# Altium integrated library TI Amplifiers and Linear Operational Amplifier Precision Amplifier Part Two.IntLib: 2300 symbols (part 36 of 81)
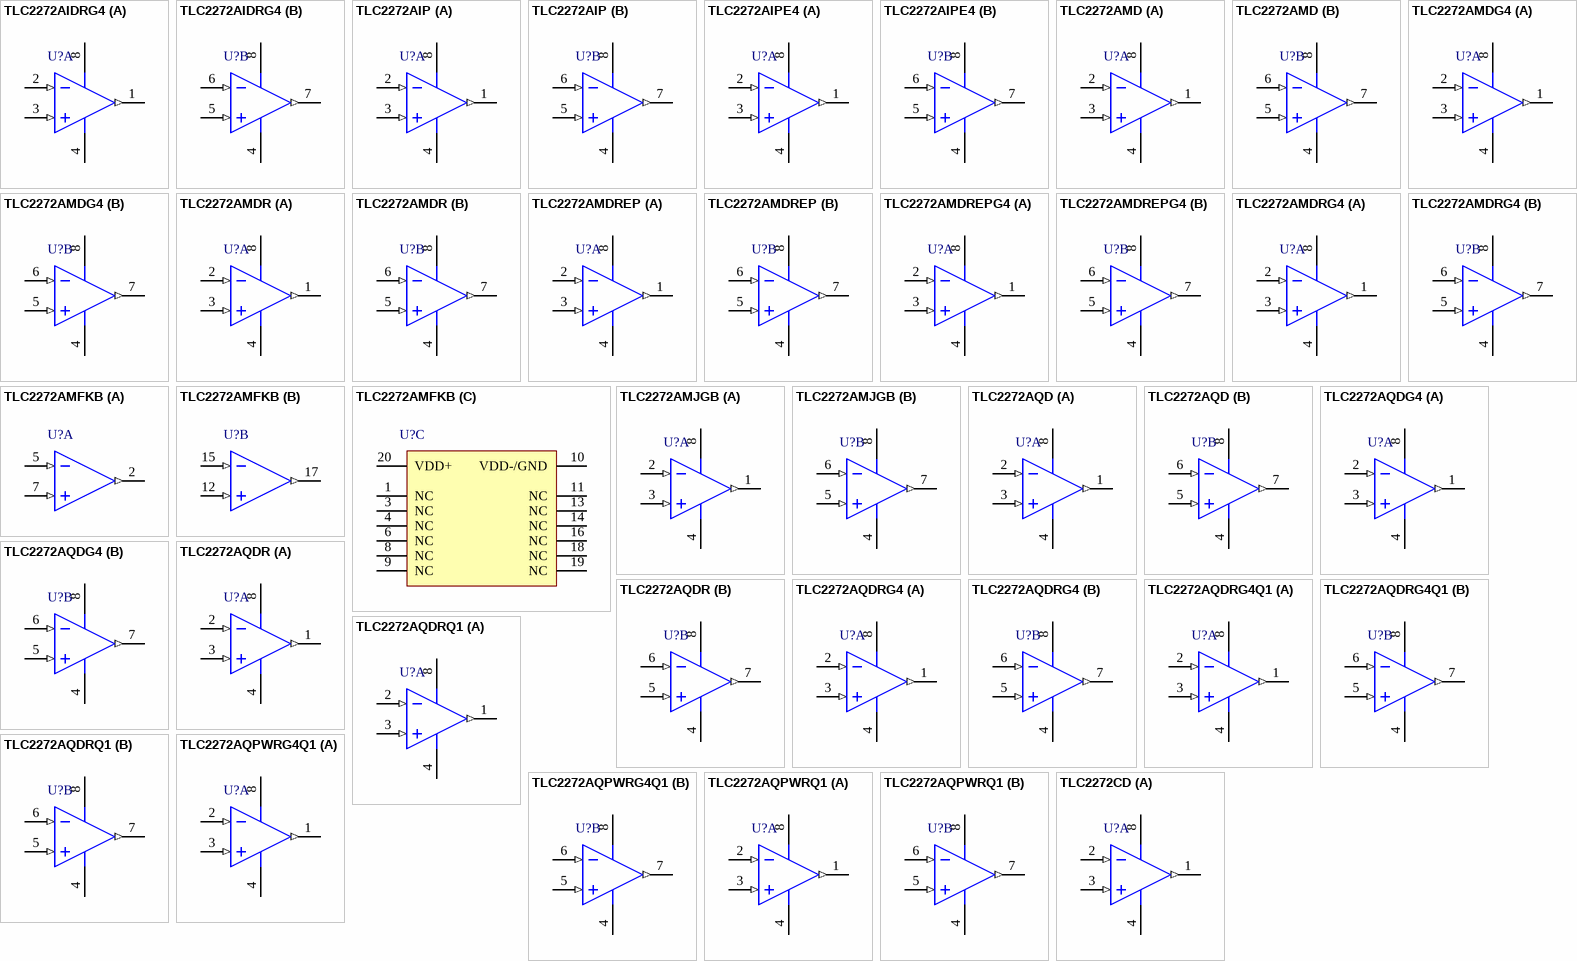
[diagram p171: symbols TLC2272AIDRG4 to TLC2272CD]

## TLC2272AMD
designator U?
Rail-to-Rail Low Noise Advanced LinCMOS(TM) Dual Operational Amplifier, 4.4 to 16 V, -55 to 125 degC, 8-pin SOIC (D8), Green (RoHS & no Sb/Br); Manufacturer: Texas Instruments; PartNumber: TLC2272AMD; CMRR(Min)(dB): 70; GBW(Typ)(MHz): 2.18; IIB(Max)(pA): 60; Iq per channel(Max)(mA): 1.5; Number of Channels: 2; Packing: SMALL T&R; Rating: Military; Slew Rate(Typ)(V/us): 3.6; Sub Family: Low Noise Amp (<=10nV/rtHz), Precision Amplifier; Total Supply Voltage(Max)(+5V is 5, +/-5V is 10): 16; Total Supply Voltage(Min)(+5V is 5, +/-5V is 10): 4.4; Vio (25C)(Max)(mV): 0.95; DatasheetVersion: SLOS190G; PackageVersion: 4040047-3/M, 06/2011; PackageReference: D8; PackageDescription: 8-Pin Plastic Small Outline, Body 4.9 x 3.9 mm, Pitch 1.27 mm; Supplier 1: Digi-Key; Supplier Part Number 1: 296-7113-5-ND; Supplier 2: Newark; Supplier Part Number 2: 08F9017; Supplier 3: Mouser; Supplier Part Number 3: 595-TLC2272AMD; Eco-Plan: Green (RoHS & no Sb/Br); Offset Drift(Typ)(uV/C): 2; Mounting Technology: Surface Mount; Code_JEDEC: MS-012; ComponentLink1Description: Manufacturer URL; ComponentLink1URL: http://www.ti.com/; ComponentLink2Description: Datasheet; ComponentLink2URL: http://www.ti.com/lit/ds/symlink/tlc2272am.pdf; ComponentLink3Description: Package Specification; ComponentLink3URL: http://www.ti.com/litv/pdf/msoi002j
footprint TI-D8_N (SOIC, 8-Leads, Body 4.9x3.9mm, Pitch 1.27mm, IPC Medium Density)
footprint TI-D8_L (SOIC, 8-Leads, Body 4.9x3.9mm, Pitch 1.27mm, IPC High Density)
footprint TI-D8_M (SOIC, 8-Leads, Body 4.9x3.9mm, Pitch 1.27mm, IPC Low Density)
pins on every part: 4 VDD-/GND (power), 8 VDD+ (power)
part A pins: 1 OUT1 (out), 2 IN1- (in), 3 IN1+ (in)
part B pins: 5 IN2+ (in), 6 IN2- (in), 7 OUT2 (out)

## TLC2272AMDG4
designator U?
Rail-to-Rail Low Noise Advanced LinCMOS(TM) Dual Operational Amplifier, 4.4 to 16 V, -55 to 125 degC, 8-pin SOIC (D8), Green (RoHS & no Sb/Br); Manufacturer: Texas Instruments; PartNumber: TLC2272AMDG4; CMRR(Min)(dB): 70; GBW(Typ)(MHz): 2.18; IIB(Max)(pA): 60; Iq per channel(Max)(mA): 1.5; Number of Channels: 2; Packing: SMALL T&R; Rating: Military; Slew Rate(Typ)(V/us): 3.6; Sub Family: Low Noise Amp (<=10nV/rtHz), Precision Amplifier; Total Supply Voltage(Max)(+5V is 5, +/-5V is 10): 16; Total Supply Voltage(Min)(+5V is 5, +/-5V is 10): 4.4; Vio (25C)(Max)(mV): 0.95; DatasheetVersion: SLOS190G; PackageVersion: 4040047-3/M, 06/2011; PackageReference: D8; PackageDescription: 8-Pin Plastic Small Outline, Body 4.9 x 3.9 mm, Pitch 1.27 mm; Supplier 1: Digi-Key; Supplier Part Number 1: 296-34339-5-ND; Supplier 2: Mouser; Supplier Part Number 2: 595-TLC2272AMDG4; Eco-Plan: Green (RoHS & no Sb/Br); Offset Drift(Typ)(uV/C): 2; Mounting Technology: Surface Mount; Code_JEDEC: MS-012; ComponentLink1Description: Manufacturer URL; ComponentLink1URL: http://www.ti.com/; ComponentLink2Description: Datasheet; ComponentLink2URL: http://www.ti.com/lit/ds/symlink/tlc2272am.pdf; ComponentLink3Description: Package Specification; ComponentLink3URL: http://www.ti.com/litv/pdf/msoi002j
footprint TI-D8_N (SOIC, 8-Leads, Body 4.9x3.9mm, Pitch 1.27mm, IPC Medium Density)
footprint TI-D8_L (SOIC, 8-Leads, Body 4.9x3.9mm, Pitch 1.27mm, IPC High Density)
footprint TI-D8_M (SOIC, 8-Leads, Body 4.9x3.9mm, Pitch 1.27mm, IPC Low Density)
pins on every part: 4 VDD-/GND (power), 8 VDD+ (power)
part A pins: 1 OUT1 (out), 2 IN1- (in), 3 IN1+ (in)
part B pins: 5 IN2+ (in), 6 IN2- (in), 7 OUT2 (out)

## TLC2272AMDR
designator U?
Rail-to-Rail Low Noise Advanced LinCMOS(TM) Dual Operational Amplifier, 4.4 to 16 V, -55 to 125 degC, 8-pin SOIC (D8), Green (RoHS & no Sb/Br); Manufacturer: Texas Instruments; PartNumber: TLC2272AMDR; CMRR(Min)(dB): 70; GBW(Typ)(MHz): 2.18; IIB(Max)(pA): 60; Iq per channel(Max)(mA): 1.5; Number of Channels: 2; Packing: LARGE T&R; Rating: Military; Slew Rate(Typ)(V/us): 3.6; Sub Family: Low Noise Amp (<=10nV/rtHz), Precision Amplifier; Total Supply Voltage(Max)(+5V is 5, +/-5V is 10): 16; Total Supply Voltage(Min)(+5V is 5, +/-5V is 10): 4.4; Vio (25C)(Max)(mV): 0.95; DatasheetVersion: SLOS190G; PackageVersion: 4040047-3/M, 06/2011; PackageReference: D8; PackageDescription: 8-Pin Plastic Small Outline, Body 4.9 x 3.9 mm, Pitch 1.27 mm; Supplier 1: Digi-Key; Supplier Part Number 1: TLC2272AMDR-ND; Supplier 2: Mouser; Supplier Part Number 2: 595-TLC2272AMDR; Eco-Plan: Green (RoHS & no Sb/Br); Offset Drift(Typ)(uV/C): 2; Mounting Technology: Surface Mount; Code_JEDEC: MS-012; ComponentLink1Description: Manufacturer URL; ComponentLink1URL: http://www.ti.com/; ComponentLink2Description: Datasheet; ComponentLink2URL: http://www.ti.com/lit/ds/symlink/tlc2272am.pdf; ComponentLink3Description: Package Specification; ComponentLink3URL: http://www.ti.com/litv/pdf/msoi002j
footprint TI-D8_N (SOIC, 8-Leads, Body 4.9x3.9mm, Pitch 1.27mm, IPC Medium Density)
footprint TI-D8_L (SOIC, 8-Leads, Body 4.9x3.9mm, Pitch 1.27mm, IPC High Density)
footprint TI-D8_M (SOIC, 8-Leads, Body 4.9x3.9mm, Pitch 1.27mm, IPC Low Density)
pins on every part: 4 VDD-/GND (power), 8 VDD+ (power)
part A pins: 1 OUT1 (out), 2 IN1- (in), 3 IN1+ (in)
part B pins: 5 IN2+ (in), 6 IN2- (in), 7 OUT2 (out)

## TLC2272AMDREP
designator U?
Enhanced Product Advanced LinCMOS(TM) Rail-to-Rail Dual Operational Amplifier, 4.4 to 16 V, -55 to 125 degC, 8-pin SOIC (D8), Green (RoHS & no Sb/Br); Manufacturer: Texas Instruments; PartNumber: TLC2272AMDREP; CMRR(Min)(dB): 70; GBW(Typ)(MHz): 2.18; IIB(Max)(pA): 60; Iq per channel(Max)(mA): 1.5; Number of Channels: 2; Packing: LARGE T&R; Rating: HiRel Enhanced Product; Slew Rate(Typ)(V/us): 3.6; Sub Family: Low Noise Amp (<=10nV/rtHz), Precision Amplifier; Total Supply Voltage(Max)(+5V is 5, +/-5V is 10): 16; Total Supply Voltage(Min)(+5V is 5, +/-5V is 10): 4.4; Vio (25C)(Max)(mV): 0.95; DatasheetVersion: SGLS131B; PackageVersion: 4040047-3/M, 06/2011; PackageReference: D8; PackageDescription: 8-Pin Plastic Small Outline, Body 4.9 x 3.9 mm, Pitch 1.27 mm; Supplier 1: Digi-Key; Supplier Part Number 1: 296-22409-2-ND; Supplier 2: Digi-Key; Supplier Part Number 2: 296-22409-1-ND; Supplier 3: Digi-Key; Supplier Part Number 3: 296-22409-6-ND; Supplier 4: Newark; Supplier Part Number 4: 46M0929; Supplier 5: Mouser; Supplier Part Number 5: 595-TLC2272AMDREP; Eco-Plan: Green (RoHS & no Sb/Br); Offset Drift(Typ)(uV/C): 2; Mounting Technology: Surface Mount; Code_JEDEC: MS-012; ComponentLink1Description: Manufacturer URL; ComponentLink1URL: http://www.ti.com/; ComponentLink2Description: Datasheet; ComponentLink2URL: http://www.ti.com/lit/ds/symlink/tlc2272a-ep.pdf; ComponentLink3Description: Package Specification; ComponentLink3URL: http://www.ti.com/litv/pdf/msoi002j
footprint TI-D8_N (SOIC, 8-Leads, Body 4.9x3.9mm, Pitch 1.27mm, IPC Medium Density)
footprint TI-D8_L (SOIC, 8-Leads, Body 4.9x3.9mm, Pitch 1.27mm, IPC High Density)
footprint TI-D8_M (SOIC, 8-Leads, Body 4.9x3.9mm, Pitch 1.27mm, IPC Low Density)
pins on every part: 4 VDD-/GND (power), 8 VDD+ (power)
part A pins: 1 OUT1 (out), 2 IN1- (in), 3 IN1+ (in)
part B pins: 5 IN2+ (in), 6 IN2- (in), 7 OUT2 (out)

## TLC2272AMDREPG4
designator U?
Enhanced Product Advanced LinCMOS(TM) Rail-to-Rail Dual Operational Amplifier, 4.4 to 16 V, -55 to 125 degC, 8-pin SOIC (D8), Green (RoHS & no Sb/Br); Manufacturer: Texas Instruments; PartNumber: TLC2272AMDREPG4; CMRR(Min)(dB): 70; GBW(Typ)(MHz): 2.18; IIB(Max)(pA): 60; Iq per channel(Max)(mA): 1.5; Number of Channels: 2; Packing: LARGE T&R; Rating: HiRel Enhanced Product; Slew Rate(Typ)(V/us): 3.6; Sub Family: Low Noise Amp (<=10nV/rtHz), Precision Amplifier; Total Supply Voltage(Max)(+5V is 5, +/-5V is 10): 16; Total Supply Voltage(Min)(+5V is 5, +/-5V is 10): 4.4; Vio (25C)(Max)(mV): 0.95; DatasheetVersion: SGLS131B; PackageVersion: 4040047-3/M, 06/2011; PackageReference: D8; PackageDescription: 8-Pin Plastic Small Outline, Body 4.9 x 3.9 mm, Pitch 1.27 mm; Supplier 1: Digi-Key; Supplier Part Number 1: TLC2272AMDREPG4-ND; Supplier 2: Mouser; Supplier Part Number 2: 595-TLC2272AMDREPG4; Eco-Plan: Green (RoHS & no Sb/Br); Offset Drift(Typ)(uV/C): 2; Mounting Technology: Surface Mount; Code_JEDEC: MS-012; ComponentLink1Description: Manufacturer URL; ComponentLink1URL: http://www.ti.com/; ComponentLink2Description: Datasheet; ComponentLink2URL: http://www.ti.com/lit/ds/symlink/tlc2272a-ep.pdf; ComponentLink3Description: Package Specification; ComponentLink3URL: http://www.ti.com/litv/pdf/msoi002j
footprint TI-D8_N (SOIC, 8-Leads, Body 4.9x3.9mm, Pitch 1.27mm, IPC Medium Density)
footprint TI-D8_L (SOIC, 8-Leads, Body 4.9x3.9mm, Pitch 1.27mm, IPC High Density)
footprint TI-D8_M (SOIC, 8-Leads, Body 4.9x3.9mm, Pitch 1.27mm, IPC Low Density)
pins on every part: 4 VDD-/GND (power), 8 VDD+ (power)
part A pins: 1 OUT1 (out), 2 IN1- (in), 3 IN1+ (in)
part B pins: 5 IN2+ (in), 6 IN2- (in), 7 OUT2 (out)

## TLC2272AMDRG4
designator U?
Rail-to-Rail Low Noise Advanced LinCMOS(TM) Dual Operational Amplifier, 4.4 to 16 V, -55 to 125 degC, 8-pin SOIC (D8), Green (RoHS & no Sb/Br); Manufacturer: Texas Instruments; PartNumber: TLC2272AMDRG4; CMRR(Min)(dB): 70; GBW(Typ)(MHz): 2.18; IIB(Max)(pA): 60; Iq per channel(Max)(mA): 1.5; Number of Channels: 2; Packing: LARGE T&R; Rating: Military; Slew Rate(Typ)(V/us): 3.6; Sub Family: Low Noise Amp (<=10nV/rtHz), Precision Amplifier; Total Supply Voltage(Max)(+5V is 5, +/-5V is 10): 16; Total Supply Voltage(Min)(+5V is 5, +/-5V is 10): 4.4; Vio (25C)(Max)(mV): 0.95; DatasheetVersion: SLOS190G; PackageVersion: 4040047-3/M, 06/2011; PackageReference: D8; PackageDescription: 8-Pin Plastic Small Outline, Body 4.9 x 3.9 mm, Pitch 1.27 mm; Supplier 1: Digi-Key; Supplier Part Number 1: TLC2272AMDRG4-ND; Supplier 2: Mouser; Supplier Part Number 2: 595-TLC2272AMDRG4; Eco-Plan: Green (RoHS & no Sb/Br); Offset Drift(Typ)(uV/C): 2; Mounting Technology: Surface Mount; Code_JEDEC: MS-012; ComponentLink1Description: Manufacturer URL; ComponentLink1URL: http://www.ti.com/; ComponentLink2Description: Datasheet; ComponentLink2URL: http://www.ti.com/lit/ds/symlink/tlc2272am.pdf; ComponentLink3Description: Package Specification; ComponentLink3URL: http://www.ti.com/litv/pdf/msoi002j
footprint TI-D8_N (SOIC, 8-Leads, Body 4.9x3.9mm, Pitch 1.27mm, IPC Medium Density)
footprint TI-D8_L (SOIC, 8-Leads, Body 4.9x3.9mm, Pitch 1.27mm, IPC High Density)
footprint TI-D8_M (SOIC, 8-Leads, Body 4.9x3.9mm, Pitch 1.27mm, IPC Low Density)
pins on every part: 4 VDD-/GND (power), 8 VDD+ (power)
part A pins: 1 OUT1 (out), 2 IN1- (in), 3 IN1+ (in)
part B pins: 5 IN2+ (in), 6 IN2- (in), 7 OUT2 (out)

## TLC2272AMFKB
designator U?
Rail-to-Rail Low Noise Advanced LinCMOS(TM) Dual Operational Amplifier, 4.4 to 16 V, -55 to 125 degC, 20-pin LCC (FK20); Manufacturer: Texas Instruments; PartNumber: TLC2272AMFKB; CMRR(Min)(dB): 70; GBW(Typ)(MHz): 2.18; IIB(Max)(pA): 60; Iq per channel(Max)(mA): 1.5; Number of Channels: 2; Packing: TUBE; Rating: Military; Slew Rate(Typ)(V/us): 3.6; Sub Family: Low Noise Amp (<=10nV/rtHz), Precision Amplifier; Total Supply Voltage(Max)(+5V is 5, +/-5V is 10): 16; Total Supply Voltage(Min)(+5V is 5, +/-5V is 10): 4.4; Vio (25C)(Max)(mV): 0.95; DatasheetVersion: SLOS190G; PackageVersion: 4040140/D, 01/2011; PackageReference: FK20; PackageDescription: 20-Pin Ceramic, Metal Chip Carrier, Body 8.89 x 8.89 mm, Pitch 1.27 mm; Offset Drift(Typ)(uV/C): 2; Mounting Technology: Surface Mount; Code_JEDEC: MS-004; ComponentLink1Description: Manufacturer URL; ComponentLink1URL: http://www.ti.com/; ComponentLink2Description: Datasheet; ComponentLink2URL: http://www.ti.com/lit/ds/symlink/tlc2272am.pdf; ComponentLink3Description: Package Specification; ComponentLink3URL: http://www.ti.com/litv/pdf/mlcc006d
footprint TI-FK20_N (Leadless Chip Carrier, 20-Leads, Body 8.9x8.9mm, Pitch 1.27mm, IPC Medium Density)
footprint TI-FK20_L (Leadless Chip Carrier, 20-Leads, Body 8.9x8.9mm, Pitch 1.27mm, IPC High Density)
footprint TI-FK20_M (Leadless Chip Carrier, 20-Leads, Body 8.9x8.9mm, Pitch 1.27mm, IPC Low Density)
part A pins: 2 OUT1 (out), 5 IN1- (in), 7 IN1+ (in)
part B pins: 12 IN2+ (in), 15 IN2- (in), 17 OUT2 (out)
part C pins: 1 NC, 3 NC, 4 NC, 6 NC, 8 NC, 9 NC, 10 VDD-/GND (power), 11 NC, 13 NC, 14 NC, 16 NC, 18 NC, 19 NC, 20 VDD+ (power)

## TLC2272AMJGB
designator U?
Rail-to-Rail Low Noise Advanced LinCMOS(TM) Dual Operational Amplifier, 4.4 to 16 V, -55 to 125 degC, 8-pin DIP (JG8); Manufacturer: Texas Instruments; PartNumber: TLC2272AMJGB; CMRR(Min)(dB): 70; GBW(Typ)(MHz): 2.18; IIB(Max)(pA): 60; Iq per channel(Max)(mA): 1.5; Number of Channels: 2; Packing: TUBE; Rating: Military; Slew Rate(Typ)(V/us): 3.6; Sub Family: Low Noise Amp (<=10nV/rtHz), Precision Amplifier; Total Supply Voltage(Max)(+5V is 5, +/-5V is 10): 16; Total Supply Voltage(Min)(+5V is 5, +/-5V is 10): 4.4; Vio (25C)(Max)(mV): 0.95; DatasheetVersion: SLOS190G; PackageVersion: 4040107/C, 08/1996; PackageReference: JG8; PackageDescription: 8-Pin Ceramic, Glass In-Line, Body 9.58 x 6.665 mm, Pitch 2.54 mm; Offset Drift(Typ)(uV/C): 2; Mounting Technology: Through Hole; ComponentLink1Description: Manufacturer URL; ComponentLink1URL: http://www.ti.com/; ComponentLink2Description: Datasheet; ComponentLink2URL: http://www.ti.com/lit/ds/symlink/tlc2272am.pdf; ComponentLink3Description: Package Specification; ComponentLink3URL: http://www.ti.com/litv/pdf/mcer001a
footprint TI-JG8 (DIP, 8-Leads, Body 10.15x7.1mm, Pitch 2.54mm)
pins on every part: 4 VDD-/GND (power), 8 VDD+ (power)
part A pins: 1 OUT1 (out), 2 IN1- (in), 3 IN1+ (in)
part B pins: 5 IN2+ (in), 6 IN2- (in), 7 OUT2 (out)

## TLC2272AQD
designator U?
Advanced LinCMOS(TM) Rail-to-Rail Dual Operational Amplifier, 4.4 to 16 V, -40 to 125 degC, 8-pin SOIC (D8), Green (RoHS & no Sb/Br); Manufacturer: Texas Instruments; PartNumber: TLC2272AQD; CMRR(Min)(dB): 70; GBW(Typ)(MHz): 2.18; IIB(Max)(pA): 60; Iq per channel(Max)(mA): 1.5; Number of Channels: 2; Packing: SMALL T&R; Rating: Catalog; Slew Rate(Typ)(V/us): 3.6; Sub Family: Low Noise Amp (<=10nV/rtHz), Precision Amplifier; Total Supply Voltage(Max)(+5V is 5, +/-5V is 10): 16; Total Supply Voltage(Min)(+5V is 5, +/-5V is 10): 4.4; Vio (25C)(Max)(mV): 0.95; DatasheetVersion: SLOS190G; PackageVersion: 4040047-3/M, 06/2011; PackageReference: D8; PackageDescription: 8-Pin Plastic Small Outline, Body 4.9 x 3.9 mm, Pitch 1.27 mm; Supplier 1: Digi-Key; Supplier Part Number 1: 296-7114-5-ND; Supplier 2: Newark; Supplier Part Number 2: 76C6902; Supplier 3: Mouser; Supplier Part Number 3: 595-TLC2272AQD; Eco-Plan: Green (RoHS & no Sb/Br); Offset Drift(Typ)(uV/C): 2; Mounting Technology: Surface Mount; Code_JEDEC: MS-012; ComponentLink1Description: Manufacturer URL; ComponentLink1URL: http://www.ti.com/; ComponentLink2Description: Datasheet; ComponentLink2URL: http://www.ti.com/lit/ds/symlink/tlc2272a.pdf; ComponentLink3Description: Package Specification; ComponentLink3URL: http://www.ti.com/litv/pdf/msoi002j
footprint TI-D8_N (SOIC, 8-Leads, Body 4.9x3.9mm, Pitch 1.27mm, IPC Medium Density)
footprint TI-D8_L (SOIC, 8-Leads, Body 4.9x3.9mm, Pitch 1.27mm, IPC High Density)
footprint TI-D8_M (SOIC, 8-Leads, Body 4.9x3.9mm, Pitch 1.27mm, IPC Low Density)
pins on every part: 4 VDD-/GND (power), 8 VDD+ (power)
part A pins: 1 OUT1 (out), 2 IN1- (in), 3 IN1+ (in)
part B pins: 5 IN2+ (in), 6 IN2- (in), 7 OUT2 (out)

## TLC2272AQDG4
designator U?
Advanced LinCMOS(TM) Rail-to-Rail Dual Operational Amplifier, 4.4 to 16 V, -40 to 125 degC, 8-pin SOIC (D8), Green (RoHS & no Sb/Br); Manufacturer: Texas Instruments; PartNumber: TLC2272AQDG4; CMRR(Min)(dB): 70; GBW(Typ)(MHz): 2.18; IIB(Max)(pA): 60; Iq per channel(Max)(mA): 1.5; Number of Channels: 2; Packing: SMALL T&R; Rating: Catalog; Slew Rate(Typ)(V/us): 3.6; Sub Family: Low Noise Amp (<=10nV/rtHz), Precision Amplifier; Total Supply Voltage(Max)(+5V is 5, +/-5V is 10): 16; Total Supply Voltage(Min)(+5V is 5, +/-5V is 10): 4.4; Vio (25C)(Max)(mV): 0.95; DatasheetVersion: SLOS190G; PackageVersion: 4040047-3/M, 06/2011; PackageReference: D8; PackageDescription: 8-Pin Plastic Small Outline, Body 4.9 x 3.9 mm, Pitch 1.27 mm; Supplier 1: Digi-Key; Supplier Part Number 1: 296-34340-5-ND; Supplier 2: Newark; Supplier Part Number 2: 50M8964; Supplier 3: Mouser; Supplier Part Number 3: 595-TLC2272AQDG4; Eco-Plan: Green (RoHS & no Sb/Br); Offset Drift(Typ)(uV/C): 2; Mounting Technology: Surface Mount; Code_JEDEC: MS-012; ComponentLink1Description: Manufacturer URL; ComponentLink1URL: http://www.ti.com/; ComponentLink2Description: Datasheet; ComponentLink2URL: http://www.ti.com/lit/ds/symlink/tlc2272a.pdf; ComponentLink3Description: Package Specification; ComponentLink3URL: http://www.ti.com/litv/pdf/msoi002j
footprint TI-D8_N (SOIC, 8-Leads, Body 4.9x3.9mm, Pitch 1.27mm, IPC Medium Density)
footprint TI-D8_L (SOIC, 8-Leads, Body 4.9x3.9mm, Pitch 1.27mm, IPC High Density)
footprint TI-D8_M (SOIC, 8-Leads, Body 4.9x3.9mm, Pitch 1.27mm, IPC Low Density)
pins on every part: 4 VDD-/GND (power), 8 VDD+ (power)
part A pins: 1 OUT1 (out), 2 IN1- (in), 3 IN1+ (in)
part B pins: 5 IN2+ (in), 6 IN2- (in), 7 OUT2 (out)

## TLC2272AQDR
designator U?
Advanced LinCMOS(TM) Rail-to-Rail Dual Operational Amplifier, 4.4 to 16 V, -40 to 125 degC, 8-pin SOIC (D8), Green (RoHS & no Sb/Br); Manufacturer: Texas Instruments; PartNumber: TLC2272AQDR; CMRR(Min)(dB): 70; GBW(Typ)(MHz): 2.18; IIB(Max)(pA): 60; Iq per channel(Max)(mA): 1.5; Number of Channels: 2; Packing: LARGE T&R; Rating: Catalog; Slew Rate(Typ)(V/us): 3.6; Sub Family: Low Noise Amp (<=10nV/rtHz), Precision Amplifier; Total Supply Voltage(Max)(+5V is 5, +/-5V is 10): 16; Total Supply Voltage(Min)(+5V is 5, +/-5V is 10): 4.4; Vio (25C)(Max)(mV): 0.95; DatasheetVersion: SLOS190G; PackageVersion: 4040047-3/M, 06/2011; PackageReference: D8; PackageDescription: 8-Pin Plastic Small Outline, Body 4.9 x 3.9 mm, Pitch 1.27 mm; Supplier 1: Digi-Key; Supplier Part Number 1: TLC2272AQDR-ND; Supplier 2: Newark; Supplier Part Number 2: 76C6903; Supplier 3: Mouser; Supplier Part Number 3: 595-TLC2272AQDR; Eco-Plan: Green (RoHS & no Sb/Br); Offset Drift(Typ)(uV/C): 2; Mounting Technology: Surface Mount; Code_JEDEC: MS-012; ComponentLink1Description: Manufacturer URL; ComponentLink1URL: http://www.ti.com/; ComponentLink2Description: Datasheet; ComponentLink2URL: http://www.ti.com/lit/ds/symlink/tlc2272a.pdf; ComponentLink3Description: Package Specification; ComponentLink3URL: http://www.ti.com/litv/pdf/msoi002j
footprint TI-D8_N (SOIC, 8-Leads, Body 4.9x3.9mm, Pitch 1.27mm, IPC Medium Density)
footprint TI-D8_L (SOIC, 8-Leads, Body 4.9x3.9mm, Pitch 1.27mm, IPC High Density)
footprint TI-D8_M (SOIC, 8-Leads, Body 4.9x3.9mm, Pitch 1.27mm, IPC Low Density)
pins on every part: 4 VDD-/GND (power), 8 VDD+ (power)
part A pins: 1 OUT1 (out), 2 IN1- (in), 3 IN1+ (in)
part B pins: 5 IN2+ (in), 6 IN2- (in), 7 OUT2 (out)

## TLC2272AQDRG4
designator U?
Advanced LinCMOS(TM) Rail-to-Rail Dual Operational Amplifier, 4.4 to 16 V, -40 to 125 degC, 8-pin SOIC (D8), Green (RoHS & no Sb/Br); Manufacturer: Texas Instruments; PartNumber: TLC2272AQDRG4; CMRR(Min)(dB): 70; GBW(Typ)(MHz): 2.18; IIB(Max)(pA): 60; Iq per channel(Max)(mA): 1.5; Number of Channels: 2; Packing: LARGE T&R; Rating: Catalog; Slew Rate(Typ)(V/us): 3.6; Sub Family: Low Noise Amp (<=10nV/rtHz), Precision Amplifier; Total Supply Voltage(Max)(+5V is 5, +/-5V is 10): 16; Total Supply Voltage(Min)(+5V is 5, +/-5V is 10): 4.4; Vio (25C)(Max)(mV): 0.95; DatasheetVersion: SLOS190G; PackageVersion: 4040047-3/M, 06/2011; PackageReference: D8; PackageDescription: 8-Pin Plastic Small Outline, Body 4.9 x 3.9 mm, Pitch 1.27 mm; Supplier 1: Digi-Key; Supplier Part Number 1: TLC2272AQDRG4-ND; Supplier 2: Mouser; Supplier Part Number 2: 595-TLC2272AQDRG4; Eco-Plan: Green (RoHS & no Sb/Br); Offset Drift(Typ)(uV/C): 2; Mounting Technology: Surface Mount; Code_JEDEC: MS-012; ComponentLink1Description: Manufacturer URL; ComponentLink1URL: http://www.ti.com/; ComponentLink2Description: Datasheet; ComponentLink2URL: http://www.ti.com/lit/ds/symlink/tlc2272a.pdf; ComponentLink3Description: Package Specification; ComponentLink3URL: http://www.ti.com/litv/pdf/msoi002j
footprint TI-D8_N (SOIC, 8-Leads, Body 4.9x3.9mm, Pitch 1.27mm, IPC Medium Density)
footprint TI-D8_L (SOIC, 8-Leads, Body 4.9x3.9mm, Pitch 1.27mm, IPC High Density)
footprint TI-D8_M (SOIC, 8-Leads, Body 4.9x3.9mm, Pitch 1.27mm, IPC Low Density)
pins on every part: 4 VDD-/GND (power), 8 VDD+ (power)
part A pins: 1 OUT1 (out), 2 IN1- (in), 3 IN1+ (in)
part B pins: 5 IN2+ (in), 6 IN2- (in), 7 OUT2 (out)

## TLC2272AQDRG4Q1
designator U?
Automotive Catalog Advanced LinCMOS(TM) Rail-to-Rail Operational Amplifier, 4.4 to 16 V, -40 to 125 degC, 8-pin SOIC (D8), Green (RoHS & no Sb/Br); Manufacturer: Texas Instruments; PartNumber: TLC2272AQDRG4Q1; CMRR(Min)(dB): 70; GBW(Typ)(MHz): 2.18; IIB(Max)(pA): 60; Iq per channel(Max)(mA): 1.5; Number of Channels: 2; Packing: LARGE T&R; Slew Rate(Typ)(V/us): 3.6; Sub Family: Low Noise Amp (<=10nV/rtHz), Precision Amplifier; Total Supply Voltage(Max)(+5V is 5, +/-5V is 10): 16; Total Supply Voltage(Min)(+5V is 5, +/-5V is 10): 4.4; Vio (25C)(Max)(mV): 0.95; DatasheetVersion: SGLS007E; PackageVersion: 4040047-3/M, 06/2011; PackageReference: D8; PackageDescription: 8-Pin Plastic Small Outline, Body 4.9 x 3.9 mm, Pitch 1.27 mm; Supplier 1: Digi-Key; Supplier Part Number 1: TLC2272AQDRG4Q1-ND; Supplier 2: Mouser; Supplier Part Number 2: 595-TLC2272AQDRG4Q1; Eco-Plan: Green (RoHS & no Sb/Br); Offset Drift(Typ)(uV/C): 2; Rating: Automotive; Mounting Technology: Surface Mount; Code_JEDEC: MS-012; ComponentLink1Description: Manufacturer URL; ComponentLink1URL: http://www.ti.com/; ComponentLink2Description: Datasheet; ComponentLink2URL: http://www.ti.com/lit/ds/symlink/tlc2272a-q1.pdf; ComponentLink3Description: Package Specification; ComponentLink3URL: http://www.ti.com/litv/pdf/msoi002j
footprint TI-D8_N (SOIC, 8-Leads, Body 4.9x3.9mm, Pitch 1.27mm, IPC Medium Density)
footprint TI-D8_L (SOIC, 8-Leads, Body 4.9x3.9mm, Pitch 1.27mm, IPC High Density)
footprint TI-D8_M (SOIC, 8-Leads, Body 4.9x3.9mm, Pitch 1.27mm, IPC Low Density)
pins on every part: 4 VDD-/GND (power), 8 VDD+ (power)
part A pins: 1 OUT1 (out), 2 IN1- (in), 3 IN1+ (in)
part B pins: 5 IN2+ (in), 6 IN2- (in), 7 OUT2 (out)

## TLC2272AQDRQ1
designator U?
Automotive Catalog Advanced LinCMOS(TM) Rail-to-Rail Operational Amplifier, 4.4 to 16 V, -40 to 125 degC, 8-pin SOIC (D8), Green (RoHS & no Sb/Br); Manufacturer: Texas Instruments; PartNumber: TLC2272AQDRQ1; CMRR(Min)(dB): 70; GBW(Typ)(MHz): 2.18; IIB(Max)(pA): 60; Iq per channel(Max)(mA): 1.5; Number of Channels: 2; Packing: LARGE T&R; Slew Rate(Typ)(V/us): 3.6; Sub Family: Low Noise Amp (<=10nV/rtHz), Precision Amplifier; Total Supply Voltage(Max)(+5V is 5, +/-5V is 10): 16; Total Supply Voltage(Min)(+5V is 5, +/-5V is 10): 4.4; Vio (25C)(Max)(mV): 0.95; DatasheetVersion: SGLS007E; PackageVersion: 4040047-3/M, 06/2011; PackageReference: D8; PackageDescription: 8-Pin Plastic Small Outline, Body 4.9 x 3.9 mm, Pitch 1.27 mm; Supplier 1: Digi-Key; Supplier Part Number 1: 296-15025-2-ND; Supplier 2: Digi-Key; Supplier Part Number 2: 296-15025-1-ND; Supplier 3: Digi-Key; Supplier Part Number 3: 296-15025-6-ND; Supplier 4: Newark; Supplier Part Number 4: 34H2472; Supplier 5: Mouser; Supplier Part Number 5: 595-TLC2272AQDRQ1; Eco-Plan: Green (RoHS & no Sb/Br); Offset Drift(Typ)(uV/C): 2; Rating: Automotive; Mounting Technology: Surface Mount; Code_JEDEC: MS-012; ComponentLink1Description: Manufacturer URL; ComponentLink1URL: http://www.ti.com/; ComponentLink2Description: Datasheet; ComponentLink2URL: http://www.ti.com/lit/ds/symlink/tlc2272a-q1.pdf; ComponentLink3Description: Package Specification; ComponentLink3URL: http://www.ti.com/litv/pdf/msoi002j
footprint TI-D8_N (SOIC, 8-Leads, Body 4.9x3.9mm, Pitch 1.27mm, IPC Medium Density)
footprint TI-D8_L (SOIC, 8-Leads, Body 4.9x3.9mm, Pitch 1.27mm, IPC High Density)
footprint TI-D8_M (SOIC, 8-Leads, Body 4.9x3.9mm, Pitch 1.27mm, IPC Low Density)
pins on every part: 4 VDD-/GND (power), 8 VDD+ (power)
part A pins: 1 OUT1 (out), 2 IN1- (in), 3 IN1+ (in)
part B pins: 5 IN2+ (in), 6 IN2- (in), 7 OUT2 (out)

## TLC2272AQPWRG4Q1
designator U?
Automotive Catalog Advanced LinCMOS(TM) Rail-to-Rail Operational Amplifier, 4.4 to 16 V, -40 to 125 degC, 8-pin SOP (PW8), Green (RoHS & no Sb/Br); Manufacturer: Texas Instruments; PartNumber: TLC2272AQPWRG4Q1; CMRR(Min)(dB): 70; GBW(Typ)(MHz): 2.18; IIB(Max)(pA): 60; Iq per channel(Max)(mA): 1.5; Number of Channels: 2; Packing: LARGE T&R; Slew Rate(Typ)(V/us): 3.6; Sub Family: Low Noise Amp (<=10nV/rtHz), Precision Amplifier; Total Supply Voltage(Max)(+5V is 5, +/-5V is 10): 16; Total Supply Voltage(Min)(+5V is 5, +/-5V is 10): 4.4; Vio (25C)(Max)(mV): 0.95; DatasheetVersion: SGLS007E; PackageVersion: 4040064-2/G, 02/2011; PackageReference: PW8; PackageDescription: 8-Pin Plastic Small Outline, Body 4.4 x 3 mm, Pitch 0.65 mm; Supplier 1: Digi-Key; Supplier Part Number 1: TLC2272AQPWRG4Q1-ND; Supplier 2: Mouser; Supplier Part Number 2: 595-TLC2272AQPWRG4Q1; Eco-Plan: Green (RoHS & no Sb/Br); Offset Drift(Typ)(uV/C): 2; Rating: Automotive; Mounting Technology: Surface Mount; Code_JEDEC: MO-153; ComponentLink1Description: Manufacturer URL; ComponentLink1URL: http://www.ti.com/; ComponentLink2Description: Datasheet; ComponentLink2URL: http://www.ti.com/lit/ds/symlink/tlc2272a-q1.pdf; ComponentLink3Description: Package Specification; ComponentLink3URL: http://www.ti.com/litv/pdf/mtss001d
footprint TI-PW8_N (SOP, 8-Leads, Body 4.4x3mm, Pitch 0.65mm, IPC Medium Density)
footprint TI-PW8_L (SOP, 8-Leads, Body 4.4x3mm, Pitch 0.65mm, IPC High Density)
footprint TI-PW8_M (SOP, 8-Leads, Body 4.4x3mm, Pitch 0.65mm, IPC Low Density)
pins on every part: 4 VDD-/GND (power), 8 VDD+ (power)
part A pins: 1 OUT1 (out), 2 IN1- (in), 3 IN1+ (in)
part B pins: 5 IN2+ (in), 6 IN2- (in), 7 OUT2 (out)

## TLC2272AQPWRQ1
designator U?
Automotive Catalog Advanced LinCMOS(TM) Rail-to-Rail Operational Amplifier, 4.4 to 16 V, -40 to 125 degC, 8-pin SOP (PW8), Green (RoHS & no Sb/Br); Manufacturer: Texas Instruments; PartNumber: TLC2272AQPWRQ1; CMRR(Min)(dB): 70; GBW(Typ)(MHz): 2.18; IIB(Max)(pA): 60; Iq per channel(Max)(mA): 1.5; Number of Channels: 2; Packing: LARGE T&R; Slew Rate(Typ)(V/us): 3.6; Sub Family: Low Noise Amp (<=10nV/rtHz), Precision Amplifier; Total Supply Voltage(Max)(+5V is 5, +/-5V is 10): 16; Total Supply Voltage(Min)(+5V is 5, +/-5V is 10): 4.4; Vio (25C)(Max)(mV): 0.95; DatasheetVersion: SGLS007E; PackageVersion: 4040064-2/G, 02/2011; PackageReference: PW8; PackageDescription: 8-Pin Plastic Small Outline, Body 4.4 x 3 mm, Pitch 0.65 mm; Supplier 1: Digi-Key; Supplier Part Number 1: 296-15839-2-ND; Supplier 2: Digi-Key; Supplier Part Number 2: 296-15839-1-ND; Supplier 3: Digi-Key; Supplier Part Number 3: 296-15839-6-ND; Supplier 4: Mouser; Supplier Part Number 4: 595-TLC2272AQPWRQ1; Eco-Plan: Green (RoHS & no Sb/Br); Offset Drift(Typ)(uV/C): 2; Rating: Automotive; Mounting Technology: Surface Mount; Code_JEDEC: MO-153; ComponentLink1Description: Manufacturer URL; ComponentLink1URL: http://www.ti.com/; ComponentLink2Description: Datasheet; ComponentLink2URL: http://www.ti.com/lit/ds/symlink/tlc2272a-q1.pdf; ComponentLink3Description: Package Specification; ComponentLink3URL: http://www.ti.com/litv/pdf/mtss001d
footprint TI-PW8_N (SOP, 8-Leads, Body 4.4x3mm, Pitch 0.65mm, IPC Medium Density)
footprint TI-PW8_L (SOP, 8-Leads, Body 4.4x3mm, Pitch 0.65mm, IPC High Density)
footprint TI-PW8_M (SOP, 8-Leads, Body 4.4x3mm, Pitch 0.65mm, IPC Low Density)
pins on every part: 4 VDD-/GND (power), 8 VDD+ (power)
part A pins: 1 OUT1 (out), 2 IN1- (in), 3 IN1+ (in)
part B pins: 5 IN2+ (in), 6 IN2- (in), 7 OUT2 (out)

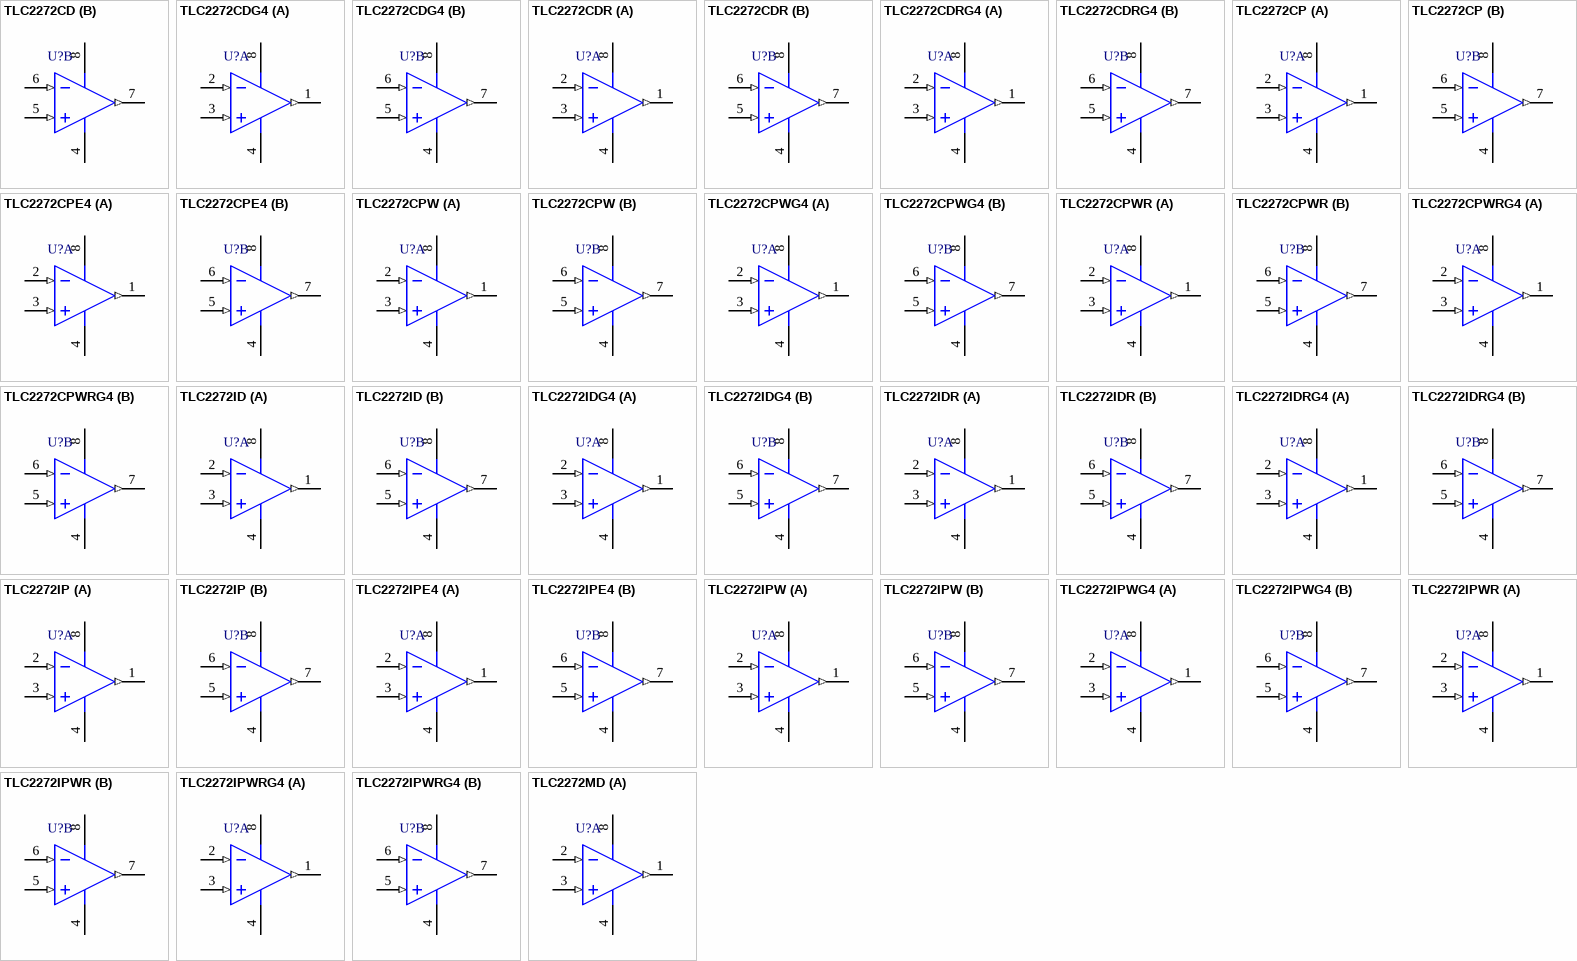
[diagram p62: symbols TLC2272CD to TLC2272MD]

## TLC2272CD
designator U?
Dual Low-Noise Rail-to-Rail Operational Amplifier, 4.4 to 16 V, 0 to 70 degC, 8-pin SOIC (D8), Green (RoHS & no Sb/Br); Manufacturer: Texas Instruments; PartNumber: TLC2272CD; CMRR(Min)(dB): 70; GBW(Typ)(MHz): 2.18; IIB(Max)(pA): 60; Iq per channel(Max)(mA): 1.5; Number of Channels: 2; Packing: TUBE; Rating: Catalog; Slew Rate(Typ)(V/us): 3.6; Sub Family: Low Noise Amp (<=10nV/rtHz), Precision Amplifier; Total Supply Voltage(Max)(+5V is 5, +/-5V is 10): 16; Total Supply Voltage(Min)(+5V is 5, +/-5V is 10): 4.4; Vio (25C)(Max)(mV): 2.5; DatasheetVersion: SLOS190G; PackageVersion: 4040047-3/M, 06/2011; PackageReference: D8; PackageDescription: 8-Pin Plastic Small Outline, Body 4.9 x 3.9 mm, Pitch 1.27 mm; Supplier 1: Digi-Key; Supplier Part Number 1: 296-1305-5-ND; Supplier 2: Farnell; Supplier Part Number 2: 8454043; Supplier 3: Newark; Supplier Part Number 3: 68K1127; Supplier 4: Mouser; Supplier Part Number 4: 595-TLC2272CD; Eco-Plan: Green (RoHS & no Sb/Br); Offset Drift(Typ)(uV/C): 2; Mounting Technology: Surface Mount; Code_JEDEC: MS-012; ComponentLink1Description: Manufacturer URL; ComponentLink1URL: http://www.ti.com/; ComponentLink2Description: Datasheet; ComponentLink2URL: http://www.ti.com/lit/ds/symlink/tlc2272.pdf; ComponentLink3Description: Package Specification; ComponentLink3URL: http://www.ti.com/litv/pdf/msoi002j
footprint TI-D8_N (SOIC, 8-Leads, Body 4.9x3.9mm, Pitch 1.27mm, IPC Medium Density)
footprint TI-D8_L (SOIC, 8-Leads, Body 4.9x3.9mm, Pitch 1.27mm, IPC High Density)
footprint TI-D8_M (SOIC, 8-Leads, Body 4.9x3.9mm, Pitch 1.27mm, IPC Low Density)
pins on every part: 4 VDD-/GND (power), 8 VDD+ (power)
part A pins: 1 OUT1 (out), 2 IN1- (in), 3 IN1+ (in)
part B pins: 5 IN2+ (in), 6 IN2- (in), 7 OUT2 (out)

## TLC2272CDG4
designator U?
Dual Low-Noise Rail-to-Rail Operational Amplifier, 4.4 to 16 V, 0 to 70 degC, 8-pin SOIC (D8), Green (RoHS & no Sb/Br); Manufacturer: Texas Instruments; PartNumber: TLC2272CDG4; CMRR(Min)(dB): 70; GBW(Typ)(MHz): 2.18; IIB(Max)(pA): 60; Iq per channel(Max)(mA): 1.5; Number of Channels: 2; Packing: TUBE; Rating: Catalog; Slew Rate(Typ)(V/us): 3.6; Sub Family: Low Noise Amp (<=10nV/rtHz), Precision Amplifier; Total Supply Voltage(Max)(+5V is 5, +/-5V is 10): 16; Total Supply Voltage(Min)(+5V is 5, +/-5V is 10): 4.4; Vio (25C)(Max)(mV): 2.5; DatasheetVersion: SLOS190G; PackageVersion: 4040047-3/M, 06/2011; PackageReference: D8; PackageDescription: 8-Pin Plastic Small Outline, Body 4.9 x 3.9 mm, Pitch 1.27 mm; Supplier 1: Digi-Key; Supplier Part Number 1: TLC2272CDG4-ND; Supplier 2: Newark; Supplier Part Number 2: 10M0572; Supplier 3: Mouser; Supplier Part Number 3: 595-TLC2272CDG4; Eco-Plan: Green (RoHS & no Sb/Br); Offset Drift(Typ)(uV/C): 2; Mounting Technology: Surface Mount; Code_JEDEC: MS-012; ComponentLink1Description: Manufacturer URL; ComponentLink1URL: http://www.ti.com/; ComponentLink2Description: Datasheet; ComponentLink2URL: http://www.ti.com/lit/ds/symlink/tlc2272.pdf; ComponentLink3Description: Package Specification; ComponentLink3URL: http://www.ti.com/litv/pdf/msoi002j
footprint TI-D8_N (SOIC, 8-Leads, Body 4.9x3.9mm, Pitch 1.27mm, IPC Medium Density)
footprint TI-D8_L (SOIC, 8-Leads, Body 4.9x3.9mm, Pitch 1.27mm, IPC High Density)
footprint TI-D8_M (SOIC, 8-Leads, Body 4.9x3.9mm, Pitch 1.27mm, IPC Low Density)
pins on every part: 4 VDD-/GND (power), 8 VDD+ (power)
part A pins: 1 OUT1 (out), 2 IN1- (in), 3 IN1+ (in)
part B pins: 5 IN2+ (in), 6 IN2- (in), 7 OUT2 (out)

## TLC2272CDR
designator U?
Dual Low-Noise Rail-to-Rail Operational Amplifier, 4.4 to 16 V, 0 to 70 degC, 8-pin SOIC (D8), Green (RoHS & no Sb/Br); Manufacturer: Texas Instruments; PartNumber: TLC2272CDR; CMRR(Min)(dB): 70; GBW(Typ)(MHz): 2.18; IIB(Max)(pA): 60; Iq per channel(Max)(mA): 1.5; Number of Channels: 2; Packing: LARGE T&R; Rating: Catalog; Slew Rate(Typ)(V/us): 3.6; Sub Family: Low Noise Amp (<=10nV/rtHz), Precision Amplifier; Total Supply Voltage(Max)(+5V is 5, +/-5V is 10): 16; Total Supply Voltage(Min)(+5V is 5, +/-5V is 10): 4.4; Vio (25C)(Max)(mV): 2.5; DatasheetVersion: SLOS190G; PackageVersion: 4040047-3/M, 06/2011; PackageReference: D8; PackageDescription: 8-Pin Plastic Small Outline, Body 4.9 x 3.9 mm, Pitch 1.27 mm; Supplier 1: Digi-Key; Supplier Part Number 1: 296-1305-2-ND; Supplier 2: Digi-Key; Supplier Part Number 2: 296-1305-1-ND; Supplier 3: Digi-Key; Supplier Part Number 3: 296-1305-6-ND; Supplier 4: Newark; Supplier Part Number 4: 35C2123; Supplier 5: Mouser; Supplier Part Number 5: 595-TLC2272CDR; Eco-Plan: Green (RoHS & no Sb/Br); Offset Drift(Typ)(uV/C): 2; Mounting Technology: Surface Mount; Code_JEDEC: MS-012; ComponentLink1Description: Manufacturer URL; ComponentLink1URL: http://www.ti.com/; ComponentLink2Description: Datasheet; ComponentLink2URL: http://www.ti.com/lit/ds/symlink/tlc2272.pdf; ComponentLink3Description: Package Specification; ComponentLink3URL: http://www.ti.com/litv/pdf/msoi002j
footprint TI-D8_N (SOIC, 8-Leads, Body 4.9x3.9mm, Pitch 1.27mm, IPC Medium Density)
footprint TI-D8_L (SOIC, 8-Leads, Body 4.9x3.9mm, Pitch 1.27mm, IPC High Density)
footprint TI-D8_M (SOIC, 8-Leads, Body 4.9x3.9mm, Pitch 1.27mm, IPC Low Density)
pins on every part: 4 VDD-/GND (power), 8 VDD+ (power)
part A pins: 1 OUT1 (out), 2 IN1- (in), 3 IN1+ (in)
part B pins: 5 IN2+ (in), 6 IN2- (in), 7 OUT2 (out)

## TLC2272CDRG4
designator U?
Dual Low-Noise Rail-to-Rail Operational Amplifier, 4.4 to 16 V, 0 to 70 degC, 8-pin SOIC (D8), Green (RoHS & no Sb/Br); Manufacturer: Texas Instruments; PartNumber: TLC2272CDRG4; CMRR(Min)(dB): 70; GBW(Typ)(MHz): 2.18; IIB(Max)(pA): 60; Iq per channel(Max)(mA): 1.5; Number of Channels: 2; Packing: LARGE T&R; Rating: Catalog; Slew Rate(Typ)(V/us): 3.6; Sub Family: Low Noise Amp (<=10nV/rtHz), Precision Amplifier; Total Supply Voltage(Max)(+5V is 5, +/-5V is 10): 16; Total Supply Voltage(Min)(+5V is 5, +/-5V is 10): 4.4; Vio (25C)(Max)(mV): 2.5; DatasheetVersion: SLOS190G; PackageVersion: 4040047-3/M, 06/2011; PackageReference: D8; PackageDescription: 8-Pin Plastic Small Outline, Body 4.9 x 3.9 mm, Pitch 1.27 mm; Supplier 1: Digi-Key; Supplier Part Number 1: TLC2272CDRG4-ND; Supplier 2: Newark; Supplier Part Number 2: 04M0179; Supplier 3: Mouser; Supplier Part Number 3: 595-TLC2272CDRG4; Eco-Plan: Green (RoHS & no Sb/Br); Offset Drift(Typ)(uV/C): 2; Mounting Technology: Surface Mount; Code_JEDEC: MS-012; ComponentLink1Description: Manufacturer URL; ComponentLink1URL: http://www.ti.com/; ComponentLink2Description: Datasheet; ComponentLink2URL: http://www.ti.com/lit/ds/symlink/tlc2272.pdf; ComponentLink3Description: Package Specification; ComponentLink3URL: http://www.ti.com/litv/pdf/msoi002j
footprint TI-D8_N (SOIC, 8-Leads, Body 4.9x3.9mm, Pitch 1.27mm, IPC Medium Density)
footprint TI-D8_L (SOIC, 8-Leads, Body 4.9x3.9mm, Pitch 1.27mm, IPC High Density)
footprint TI-D8_M (SOIC, 8-Leads, Body 4.9x3.9mm, Pitch 1.27mm, IPC Low Density)
pins on every part: 4 VDD-/GND (power), 8 VDD+ (power)
part A pins: 1 OUT1 (out), 2 IN1- (in), 3 IN1+ (in)
part B pins: 5 IN2+ (in), 6 IN2- (in), 7 OUT2 (out)

## TLC2272CP
designator U?
Dual Low-Noise Rail-to-Rail Operational Amplifier, 4.4 to 16 V, 0 to 70 degC, 8-pin DIP (P8), Pb-Free (RoHS); Manufacturer: Texas Instruments; PartNumber: TLC2272CP; CMRR(Min)(dB): 70; GBW(Typ)(MHz): 2.18; IIB(Max)(pA): 60; Iq per channel(Max)(mA): 1.5; Number of Channels: 2; Packing: TUBE; Rating: Catalog; Slew Rate(Typ)(V/us): 3.6; Sub Family: Low Noise Amp (<=10nV/rtHz), Precision Amplifier; Total Supply Voltage(Max)(+5V is 5, +/-5V is 10): 16; Total Supply Voltage(Min)(+5V is 5, +/-5V is 10): 4.4; Vio (25C)(Max)(mV): 2.5; DatasheetVersion: SLOS190G; PackageVersion: 4040082/E, 04/2010; PackageReference: P8; PackageDescription: 8-Pin Plastic In-Line, Body 9.59 x 6.35 mm, Pitch 2.54 mm; Supplier 1: Digi-Key; Supplier Part Number 1: 296-1812-5-ND; Supplier 2: Farnell; Supplier Part Number 2: 8454051; Supplier 3: Newark; Supplier Part Number 3: 35K1183; Supplier 4: Mouser; Supplier Part Number 4: 595-TLC2272CP; Eco-Plan: Pb-Free (RoHS); Offset Drift(Typ)(uV/C): 2; Mounting Technology: Through Hole; Code_JEDEC: MS-001; ComponentLink1Description: Manufacturer URL; ComponentLink1URL: http://www.ti.com/; ComponentLink2Description: Datasheet; ComponentLink2URL: http://www.ti.com/lit/ds/symlink/tlc2272.pdf; ComponentLink3Description: Package Specification; ComponentLink3URL: http://www.ti.com/litv/pdf/mpdi001b
footprint TI-P8 (DIP, 8-Leads, Body 9.59x6.35mm, Pitch 2.54mm)
pins on every part: 4 VDD-/GND (power), 8 VDD+ (power)
part A pins: 1 OUT1 (out), 2 IN1- (in), 3 IN1+ (in)
part B pins: 5 IN2+ (in), 6 IN2- (in), 7 OUT2 (out)

## TLC2272CPE4
designator U?
Dual Low-Noise Rail-to-Rail Operational Amplifier, 4.4 to 16 V, 0 to 70 degC, 8-pin DIP (P8), Pb-Free (RoHS); Manufacturer: Texas Instruments; PartNumber: TLC2272CPE4; CMRR(Min)(dB): 70; GBW(Typ)(MHz): 2.18; IIB(Max)(pA): 60; Iq per channel(Max)(mA): 1.5; Number of Channels: 2; Packing: TUBE; Rating: Catalog; Slew Rate(Typ)(V/us): 3.6; Sub Family: Low Noise Amp (<=10nV/rtHz), Precision Amplifier; Total Supply Voltage(Max)(+5V is 5, +/-5V is 10): 16; Total Supply Voltage(Min)(+5V is 5, +/-5V is 10): 4.4; Vio (25C)(Max)(mV): 2.5; DatasheetVersion: SLOS190G; PackageVersion: 4040082/E, 04/2010; PackageReference: P8; PackageDescription: 8-Pin Plastic In-Line, Body 9.59 x 6.35 mm, Pitch 2.54 mm; Supplier 1: Digi-Key; Supplier Part Number 1: TLC2272CPE4-ND; Supplier 2: Mouser; Supplier Part Number 2: 595-TLC2272CPE4; Eco-Plan: Pb-Free (RoHS); Offset Drift(Typ)(uV/C): 2; Mounting Technology: Through Hole; Code_JEDEC: MS-001; ComponentLink1Description: Manufacturer URL; ComponentLink1URL: http://www.ti.com/; ComponentLink2Description: Datasheet; ComponentLink2URL: http://www.ti.com/lit/ds/symlink/tlc2272.pdf; ComponentLink3Description: Package Specification; ComponentLink3URL: http://www.ti.com/litv/pdf/mpdi001b
footprint TI-P8 (DIP, 8-Leads, Body 9.59x6.35mm, Pitch 2.54mm)
pins on every part: 4 VDD-/GND (power), 8 VDD+ (power)
part A pins: 1 OUT1 (out), 2 IN1- (in), 3 IN1+ (in)
part B pins: 5 IN2+ (in), 6 IN2- (in), 7 OUT2 (out)

## TLC2272CPW
designator U?
Dual Low-Noise Rail-to-Rail Operational Amplifier, 4.4 to 16 V, 0 to 70 degC, 8-pin SOP (PW8), Green (RoHS & no Sb/Br); Manufacturer: Texas Instruments; PartNumber: TLC2272CPW; CMRR(Min)(dB): 70; GBW(Typ)(MHz): 2.18; IIB(Max)(pA): 60; Iq per channel(Max)(mA): 1.5; Number of Channels: 2; Packing: TUBE; Rating: Catalog; Slew Rate(Typ)(V/us): 3.6; Sub Family: Low Noise Amp (<=10nV/rtHz), Precision Amplifier; Total Supply Voltage(Max)(+5V is 5, +/-5V is 10): 16; Total Supply Voltage(Min)(+5V is 5, +/-5V is 10): 4.4; Vio (25C)(Max)(mV): 2.5; DatasheetVersion: SLOS190G; PackageVersion: 4040064-2/G, 02/2011; PackageReference: PW8; PackageDescription: 8-Pin Plastic Small Outline, Body 4.4 x 3 mm, Pitch 0.65 mm; Supplier 1: Digi-Key; Supplier Part Number 1: 296-34342-5-ND; Supplier 2: Mouser; Supplier Part Number 2: 595-TLC2272CPW; Eco-Plan: Green (RoHS & no Sb/Br); Offset Drift(Typ)(uV/C): 2; Mounting Technology: Surface Mount; Code_JEDEC: MO-153; ComponentLink1Description: Manufacturer URL; ComponentLink1URL: http://www.ti.com/; ComponentLink2Description: Datasheet; ComponentLink2URL: http://www.ti.com/lit/ds/symlink/tlc2272.pdf; ComponentLink3Description: Package Specification; ComponentLink3URL: http://www.ti.com/litv/pdf/mtss001d
footprint TI-PW8_N (SOP, 8-Leads, Body 4.4x3mm, Pitch 0.65mm, IPC Medium Density)
footprint TI-PW8_L (SOP, 8-Leads, Body 4.4x3mm, Pitch 0.65mm, IPC High Density)
footprint TI-PW8_M (SOP, 8-Leads, Body 4.4x3mm, Pitch 0.65mm, IPC Low Density)
pins on every part: 4 VDD-/GND (power), 8 VDD+ (power)
part A pins: 1 OUT1 (out), 2 IN1- (in), 3 IN1+ (in)
part B pins: 5 IN2+ (in), 6 IN2- (in), 7 OUT2 (out)

## TLC2272CPWG4
designator U?
Dual Low-Noise Rail-to-Rail Operational Amplifier, 4.4 to 16 V, 0 to 70 degC, 8-pin SOP (PW8), Green (RoHS & no Sb/Br); Manufacturer: Texas Instruments; PartNumber: TLC2272CPWG4; CMRR(Min)(dB): 70; GBW(Typ)(MHz): 2.18; IIB(Max)(pA): 60; Iq per channel(Max)(mA): 1.5; Number of Channels: 2; Packing: TUBE; Rating: Catalog; Slew Rate(Typ)(V/us): 3.6; Sub Family: Low Noise Amp (<=10nV/rtHz), Precision Amplifier; Total Supply Voltage(Max)(+5V is 5, +/-5V is 10): 16; Total Supply Voltage(Min)(+5V is 5, +/-5V is 10): 4.4; Vio (25C)(Max)(mV): 2.5; DatasheetVersion: SLOS190G; PackageVersion: 4040064-2/G, 02/2011; PackageReference: PW8; PackageDescription: 8-Pin Plastic Small Outline, Body 4.4 x 3 mm, Pitch 0.65 mm; Supplier 1: Digi-Key; Supplier Part Number 1: TLC2272CPWG4-ND; Supplier 2: Mouser; Supplier Part Number 2: 595-TLC2272CPWG4; Eco-Plan: Green (RoHS & no Sb/Br); Offset Drift(Typ)(uV/C): 2; Mounting Technology: Surface Mount; Code_JEDEC: MO-153; ComponentLink1Description: Manufacturer URL; ComponentLink1URL: http://www.ti.com/; ComponentLink2Description: Datasheet; ComponentLink2URL: http://www.ti.com/lit/ds/symlink/tlc2272.pdf; ComponentLink3Description: Package Specification; ComponentLink3URL: http://www.ti.com/litv/pdf/mtss001d
footprint TI-PW8_N (SOP, 8-Leads, Body 4.4x3mm, Pitch 0.65mm, IPC Medium Density)
footprint TI-PW8_L (SOP, 8-Leads, Body 4.4x3mm, Pitch 0.65mm, IPC High Density)
footprint TI-PW8_M (SOP, 8-Leads, Body 4.4x3mm, Pitch 0.65mm, IPC Low Density)
pins on every part: 4 VDD-/GND (power), 8 VDD+ (power)
part A pins: 1 OUT1 (out), 2 IN1- (in), 3 IN1+ (in)
part B pins: 5 IN2+ (in), 6 IN2- (in), 7 OUT2 (out)

## TLC2272CPWR
designator U?
Dual Low-Noise Rail-to-Rail Operational Amplifier, 4.4 to 16 V, 0 to 70 degC, 8-pin SOP (PW8), Green (RoHS & no Sb/Br); Manufacturer: Texas Instruments; PartNumber: TLC2272CPWR; CMRR(Min)(dB): 70; GBW(Typ)(MHz): 2.18; IIB(Max)(pA): 60; Iq per channel(Max)(mA): 1.5; Number of Channels: 2; Packing: LARGE T&R; Rating: Catalog; Slew Rate(Typ)(V/us): 3.6; Sub Family: Low Noise Amp (<=10nV/rtHz), Precision Amplifier; Total Supply Voltage(Max)(+5V is 5, +/-5V is 10): 16; Total Supply Voltage(Min)(+5V is 5, +/-5V is 10): 4.4; Vio (25C)(Max)(mV): 2.5; DatasheetVersion: SLOS190G; PackageVersion: 4040064-2/G, 02/2011; PackageReference: PW8; PackageDescription: 8-Pin Plastic Small Outline, Body 4.4 x 3 mm, Pitch 0.65 mm; Supplier 1: Digi-Key; Supplier Part Number 1: 296-7115-2-ND; Supplier 2: Digi-Key; Supplier Part Number 2: 296-7115-1-ND; Supplier 3: Digi-Key; Supplier Part Number 3: 296-7115-6-ND; Supplier 4: Newark; Supplier Part Number 4: 76C6906; Supplier 5: Mouser; Supplier Part Number 5: 595-TLC2272CPWR; Eco-Plan: Green (RoHS & no Sb/Br); Offset Drift(Typ)(uV/C): 2; Mounting Technology: Surface Mount; Code_JEDEC: MO-153; ComponentLink1Description: Manufacturer URL; ComponentLink1URL: http://www.ti.com/; ComponentLink2Description: Datasheet; ComponentLink2URL: http://www.ti.com/lit/ds/symlink/tlc2272.pdf; ComponentLink3Description: Package Specification; ComponentLink3URL: http://www.ti.com/litv/pdf/mtss001d
footprint TI-PW8_N (SOP, 8-Leads, Body 4.4x3mm, Pitch 0.65mm, IPC Medium Density)
footprint TI-PW8_L (SOP, 8-Leads, Body 4.4x3mm, Pitch 0.65mm, IPC High Density)
footprint TI-PW8_M (SOP, 8-Leads, Body 4.4x3mm, Pitch 0.65mm, IPC Low Density)
pins on every part: 4 VDD-/GND (power), 8 VDD+ (power)
part A pins: 1 OUT1 (out), 2 IN1- (in), 3 IN1+ (in)
part B pins: 5 IN2+ (in), 6 IN2- (in), 7 OUT2 (out)

## TLC2272CPWRG4
designator U?
Dual Low-Noise Rail-to-Rail Operational Amplifier, 4.4 to 16 V, 0 to 70 degC, 8-pin SOP (PW8), Green (RoHS & no Sb/Br); Manufacturer: Texas Instruments; PartNumber: TLC2272CPWRG4; CMRR(Min)(dB): 70; GBW(Typ)(MHz): 2.18; IIB(Max)(pA): 60; Iq per channel(Max)(mA): 1.5; Number of Channels: 2; Packing: LARGE T&R; Rating: Catalog; Slew Rate(Typ)(V/us): 3.6; Sub Family: Low Noise Amp (<=10nV/rtHz), Precision Amplifier; Total Supply Voltage(Max)(+5V is 5, +/-5V is 10): 16; Total Supply Voltage(Min)(+5V is 5, +/-5V is 10): 4.4; Vio (25C)(Max)(mV): 2.5; DatasheetVersion: SLOS190G; PackageVersion: 4040064-2/G, 02/2011; PackageReference: PW8; PackageDescription: 8-Pin Plastic Small Outline, Body 4.4 x 3 mm, Pitch 0.65 mm; Supplier 1: Digi-Key; Supplier Part Number 1: TLC2272CPWRG4-ND; Supplier 2: Mouser; Supplier Part Number 2: 595-TLC2272CPWRG4; Eco-Plan: Green (RoHS & no Sb/Br); Offset Drift(Typ)(uV/C): 2; Mounting Technology: Surface Mount; Code_JEDEC: MO-153; ComponentLink1Description: Manufacturer URL; ComponentLink1URL: http://www.ti.com/; ComponentLink2Description: Datasheet; ComponentLink2URL: http://www.ti.com/lit/ds/symlink/tlc2272.pdf; ComponentLink3Description: Package Specification; ComponentLink3URL: http://www.ti.com/litv/pdf/mtss001d
footprint TI-PW8_N (SOP, 8-Leads, Body 4.4x3mm, Pitch 0.65mm, IPC Medium Density)
footprint TI-PW8_L (SOP, 8-Leads, Body 4.4x3mm, Pitch 0.65mm, IPC High Density)
footprint TI-PW8_M (SOP, 8-Leads, Body 4.4x3mm, Pitch 0.65mm, IPC Low Density)
pins on every part: 4 VDD-/GND (power), 8 VDD+ (power)
part A pins: 1 OUT1 (out), 2 IN1- (in), 3 IN1+ (in)
part B pins: 5 IN2+ (in), 6 IN2- (in), 7 OUT2 (out)

## TLC2272ID
designator U?
Dual Low-Noise Rail-to-Rail Operational Amplifier, 4.4 to 16 V, -40 to 125 degC, 8-pin SOIC (D8), Green (RoHS & no Sb/Br); Manufacturer: Texas Instruments; PartNumber: TLC2272ID; CMRR(Min)(dB): 70; GBW(Typ)(MHz): 2.18; IIB(Max)(pA): 60; Iq per channel(Max)(mA): 1.5; Number of Channels: 2; Packing: TUBE; Rating: Catalog; Slew Rate(Typ)(V/us): 3.6; Sub Family: Low Noise Amp (<=10nV/rtHz), Precision Amplifier; Total Supply Voltage(Max)(+5V is 5, +/-5V is 10): 16; Total Supply Voltage(Min)(+5V is 5, +/-5V is 10): 4.4; Vio (25C)(Max)(mV): 2.5; DatasheetVersion: SLOS190G; PackageVersion: 4040047-3/M, 06/2011; PackageReference: D8; PackageDescription: 8-Pin Plastic Small Outline, Body 4.9 x 3.9 mm, Pitch 1.27 mm; Supplier 1: Digi-Key; Supplier Part Number 1: 296-7116-5-ND; Supplier 2: Farnell; Supplier Part Number 2: 1470380; Supplier 3: Newark; Supplier Part Number 3: 67K1256; Supplier 4: Mouser; Supplier Part Number 4: 595-TLC2272ID; Eco-Plan: Green (RoHS & no Sb/Br); Offset Drift(Typ)(uV/C): 2; Mounting Technology: Surface Mount; Code_JEDEC: MS-012; ComponentLink1Description: Manufacturer URL; ComponentLink1URL: http://www.ti.com/; ComponentLink2Description: Datasheet; ComponentLink2URL: http://www.ti.com/lit/ds/symlink/tlc2272.pdf; ComponentLink3Description: Package Specification; ComponentLink3URL: http://www.ti.com/litv/pdf/msoi002j
footprint TI-D8_N (SOIC, 8-Leads, Body 4.9x3.9mm, Pitch 1.27mm, IPC Medium Density)
footprint TI-D8_L (SOIC, 8-Leads, Body 4.9x3.9mm, Pitch 1.27mm, IPC High Density)
footprint TI-D8_M (SOIC, 8-Leads, Body 4.9x3.9mm, Pitch 1.27mm, IPC Low Density)
pins on every part: 4 VDD-/GND (power), 8 VDD+ (power)
part A pins: 1 OUT1 (out), 2 IN1- (in), 3 IN1+ (in)
part B pins: 5 IN2+ (in), 6 IN2- (in), 7 OUT2 (out)

## TLC2272IDG4
designator U?
Dual Low-Noise Rail-to-Rail Operational Amplifier, 4.4 to 16 V, -40 to 125 degC, 8-pin SOIC (D8), Green (RoHS & no Sb/Br); Manufacturer: Texas Instruments; PartNumber: TLC2272IDG4; CMRR(Min)(dB): 70; GBW(Typ)(MHz): 2.18; IIB(Max)(pA): 60; Iq per channel(Max)(mA): 1.5; Number of Channels: 2; Packing: TUBE; Rating: Catalog; Slew Rate(Typ)(V/us): 3.6; Sub Family: Low Noise Amp (<=10nV/rtHz), Precision Amplifier; Total Supply Voltage(Max)(+5V is 5, +/-5V is 10): 16; Total Supply Voltage(Min)(+5V is 5, +/-5V is 10): 4.4; Vio (25C)(Max)(mV): 2.5; DatasheetVersion: SLOS190G; PackageVersion: 4040047-3/M, 06/2011; PackageReference: D8; PackageDescription: 8-Pin Plastic Small Outline, Body 4.9 x 3.9 mm, Pitch 1.27 mm; Supplier 1: Digi-Key; Supplier Part Number 1: TLC2272IDG4-ND; Supplier 2: Newark; Supplier Part Number 2: 58K6712; Supplier 3: Mouser; Supplier Part Number 3: 595-TLC2272IDG4; Eco-Plan: Green (RoHS & no Sb/Br); Offset Drift(Typ)(uV/C): 2; Mounting Technology: Surface Mount; Code_JEDEC: MS-012; ComponentLink1Description: Manufacturer URL; ComponentLink1URL: http://www.ti.com/; ComponentLink2Description: Datasheet; ComponentLink2URL: http://www.ti.com/lit/ds/symlink/tlc2272.pdf; ComponentLink3Description: Package Specification; ComponentLink3URL: http://www.ti.com/litv/pdf/msoi002j
footprint TI-D8_N (SOIC, 8-Leads, Body 4.9x3.9mm, Pitch 1.27mm, IPC Medium Density)
footprint TI-D8_L (SOIC, 8-Leads, Body 4.9x3.9mm, Pitch 1.27mm, IPC High Density)
footprint TI-D8_M (SOIC, 8-Leads, Body 4.9x3.9mm, Pitch 1.27mm, IPC Low Density)
pins on every part: 4 VDD-/GND (power), 8 VDD+ (power)
part A pins: 1 OUT1 (out), 2 IN1- (in), 3 IN1+ (in)
part B pins: 5 IN2+ (in), 6 IN2- (in), 7 OUT2 (out)